# Altium footprint library switch.PCBLIB: 92 footprints (part 6 of 6)
Each footprint in its own frame and in the unit in brackets; x right, y up, seen from the top. Pads: shape width x height; smd on the part's side, far side on the other; paste and mask are expansions set on the pad; w line width, h text height; cw(c..) or ccw(c..) is an arc to the next point about the centre after c.
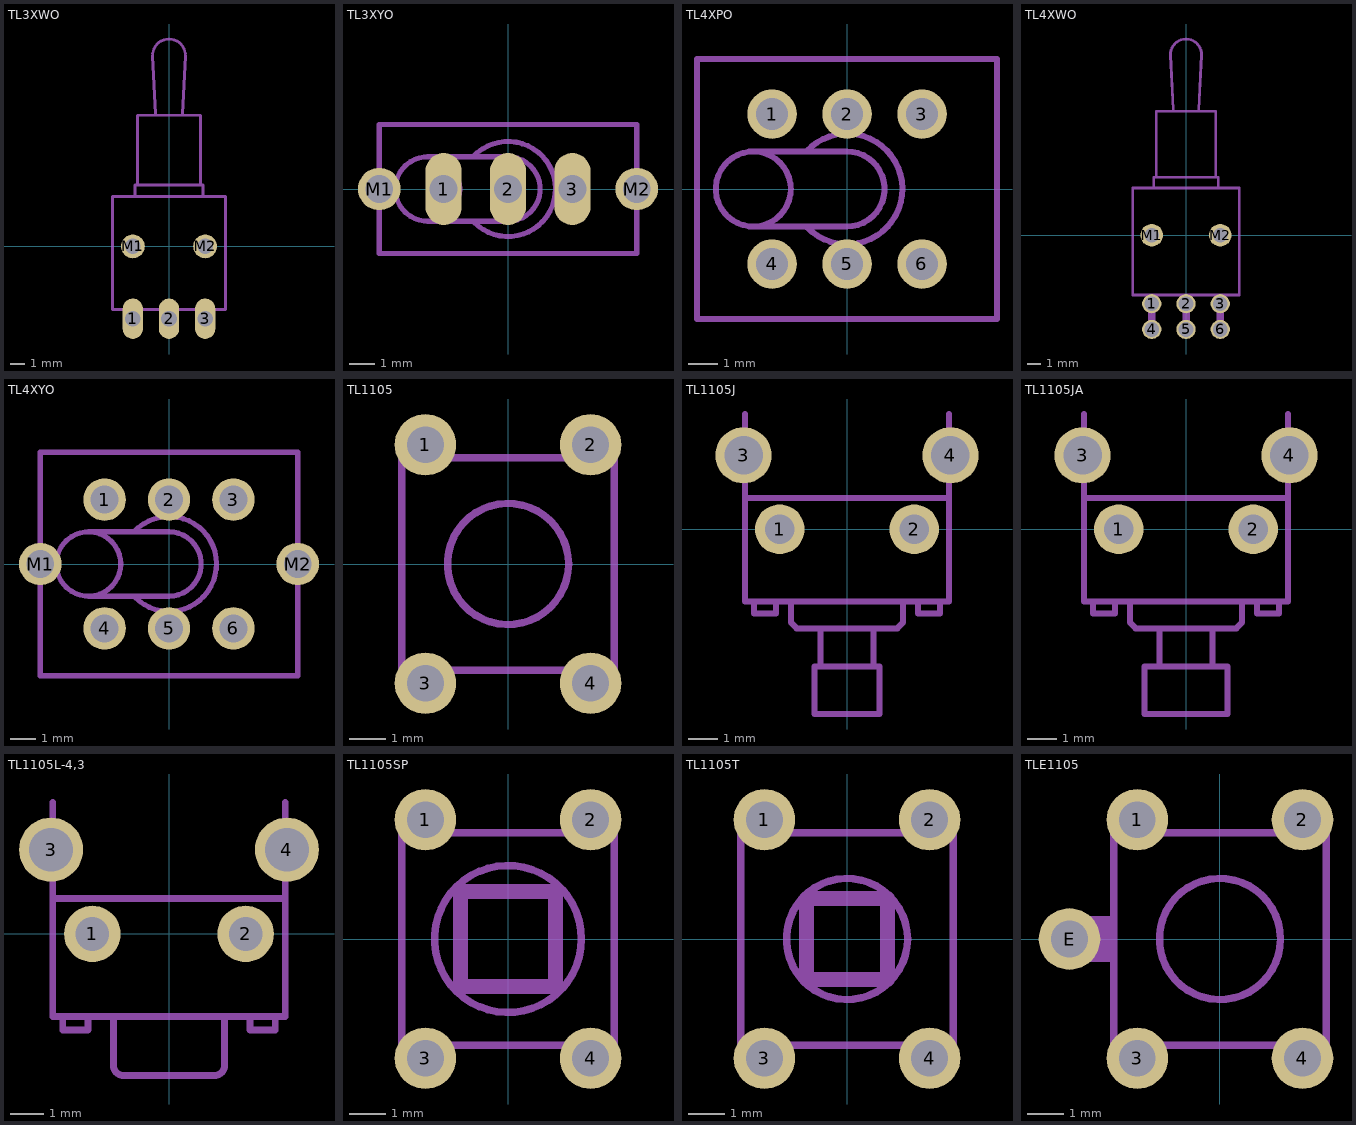
[diagram p5: the footprints below, top view; thin cyan lines are the x and y axes]

## TL3XWO [mil]
pads (5):
  oval 56x112 hole 43.31: 1(-100,-200) 2(0,-200) 3(100,-200)
  round 66 hole 43.31: M1(-100,0) M2(100,0)
Mechanical 2:
  lines w8: -134.29,-174.21 -155.71,-174.21 -155.71,137.8 155.71,137.8 155.71,-174.21 134.29,-174.21 ; -94.49,142.52 -94.49,169.09 94.49,169.09 94.49,141.54 ; -86.61,172.05 -86.61,362.01 ; -85.83,362.2 85.83,362.2 ; -65.71,-174.21 -34.29,-174.21 ; -37.4,365.94 -45.28,525.39 cw(c0,527.63) 45.28,525.39 37.4,365.94 ; 34.29,-174.21 65.71,-174.21 ; 86.61,171.06 86.61,362.01
Mechanical 18:
  rectangle: -110.24,-214.76 -88.58,-173.43
  rectangle: -10.24,-214.76 11.42,-173.43
  rectangle: 89.76,-214.76 111.42,-173.43
  lines w8: -155.71,-174.21 155.71,-174.21

## TL3XYO [mil]
pads (5):
  oval 56x112 hole 43.31: 1(-100,0) 2(0,0) 3(100,0)
  round 66 hole 43.31: M1(-200,0) M2(200,0)
Mechanical 2:
  lines w8: -200,-50 -200,-100 200,-100 200,-50 ; -200,50 -200,100 200,100 200,50
Mechanical 18:
  circle w8: c-125,0 r50
  lines w8: -200,-100 -200,100 ; -125,-50 0,-50 ccw(c0,0) 0,50 -125,50 ; -54.13,50.2 cw(c0,0.03) -53.15,-51.18 ; 200,-100 200,100

## TL4XPO [mil]
pads (6):
  round 66 hole 43.31: 1(-100,100) 2(0,100) 3(100,100) 4(-100,-100) 5(0,-100) 6(100,-100)
Mechanical 2:
  lines w8: -200,-173.62 200,-173.62 200,173.62 -200,173.62 -200,-173.62
Mechanical 18:
  circle w8: c-125,0 r50
  lines w8: -125,-50 0,-50 ccw(c0,0) 0,50 -125,50 ; -54.13,50.2 cw(c0,0.03) -53.15,-51.18

## TL4XWO [mil]
pads (8):
  round 56 hole 43.31: 1(-100,-200) 2(0,-200) 3(100,-200) 4(-100,-275) 5(0,-275) 6(100,-275)
  round 66 hole 43.31: M1(-100,0) M2(100,0)
Mechanical 2:
  lines w8: -134.29,-174.21 -155.71,-174.21 -155.71,137.8 155.71,137.8 155.71,-174.21 134.29,-174.21 ; -94.49,142.52 -94.49,169.09 94.49,169.09 94.49,141.54 ; -86.61,172.05 -86.61,362.01 ; -85.83,362.2 85.83,362.2 ; -65.71,-174.21 -34.29,-174.21 ; -37.4,365.94 -45.28,525.39 cw(c0,527.63) 45.28,525.39 37.4,365.94 ; 34.29,-174.21 65.71,-174.21 ; 86.61,171.06 86.61,362.01
Mechanical 18:
  rectangle: -10.24,-287.4 11.42,-173.43
  rectangle: 89.76,-287.4 111.42,-173.43
  rectangle: -110.24,-287.4 -88.58,-173.43
  lines w8: -155.71,-174.21 155.71,-174.21

## TL4XYO [mil]
pads (8):
  round 66 hole 43.31: 1(-100,100) 2(0,100) 3(100,100) 4(-100,-100) 5(0,-100) 6(100,-100) M1(-200,0) M2(200,0)
Mechanical 2:
  lines w8: -200,-51.38 -200,-173.62 200,-173.62 200,-51.38 ; -200,51.38 -200,173.62 200,173.62 200,51.38
Mechanical 18:
  circle w8: c-125,0 r50
  lines w8: -200,-173.62 -200,173.62 ; -125,-50 0,-50 ccw(c0,0) 0,50 -125,50 ; -54.13,50.2 cw(c0,0.03) -53.15,-51.18 ; 200,-173.62 200,173.62

## TL1105 [mil]
pads (4):
  round 66 hole 39.37: 1(-88.58,127.95) 2(88.58,127.95) 3(-88.58,-127.95) 4(88.58,-127.95)
Mechanical 2:
  circle w8: c0,0 r64.96
  lines w8: -114.17,-89.17 -114.17,89.17 ; -39.17,-114.17 39.17,-114.17 ; -39.17,114.17 39.17,114.17 ; 114.17,-89.17 114.17,89.17
Mechanical 18:
  rectangle: -100.39,115.16 -76.77,151.57
  rectangle: 76.77,115.16 100.39,151.57
  region: 100.39,-115.16 76.77,-115.16 76.77,-151.57 100.39,-151.57
  region: -76.77,-115.16 -100.39,-115.16 -100.39,-151.57 -76.77,-151.57
  lines w8: -114.17,-114.17 -114.17,114.17 114.17,114.17 114.17,-114.17 -114.17,-114.17

## TL1105J [mil]
pads (4):
  round 66 hole 39.37: 1(-89.57,0) 2(89.57,0)
  round 74.8 hole 51.18: 3(-137.8,98.43) 4(137.8,98.43)
Mechanical 2:
  lines w8: -135.83,55.12 -135.83,41.34 ; -135.83,139.76 -135.83,153.54 ; -124.02,-100.39 -124.02,-112.2 -94.49,-112.2 -94.49,-100.39 ; -74.8,-100.39 -74.8,-124.02 -66.93,-131.89 -35.43,-131.89 ; 74.8,-100.39 74.8,-124.02 66.93,-131.89 35.43,-131.89 ; 94.49,-100.39 94.49,-112.2 124.02,-112.2 124.02,-100.39 ; 135.83,55.12 135.83,41.34 ; 135.83,139.76 135.83,153.54 ; -135.83,41.34 -135.83,-96.46 135.83,-96.46 135.83,41.34 ; -135.83,41.34 135.83,41.34 ; -35.43,-183.07 -43.31,-183.07 -43.31,-246.06 43.31,-246.06 43.31,-183.07 35.43,-183.07 ; -35.43,-183.07 35.43,-183.07 ; -35.43,-183.07 -35.43,-131.89 ; -35.43,-131.89 35.43,-131.89 ; 35.43,-183.07 35.43,-131.89
Mechanical 18:
  rectangle: -165.35,78.74 -135.83,118.11
  region: 165.35,118.11 135.83,118.11 135.83,78.74 165.35,78.74
  lines w8: -135.83,41.34 -135.83,153.54 ; 135.83,41.34 135.83,153.54

## TL1105JA [mil]
pads (4):
  round 66 hole 39.37: 1(-89.57,0) 2(89.57,0)
  round 74.8 hole 51.18: 3(-137.8,98.43) 4(137.8,98.43)
Mechanical 2:
  lines w8: -135.83,55.12 -135.83,41.34 ; -135.83,139.76 -135.83,153.54 ; -124.02,-100.39 -124.02,-112.2 -94.49,-112.2 -94.49,-100.39 ; -74.8,-100.39 -74.8,-124.02 -66.93,-131.89 -35.43,-131.89 ; 74.8,-100.39 74.8,-124.02 66.93,-131.89 35.43,-131.89 ; 94.49,-100.39 94.49,-112.2 124.02,-112.2 124.02,-100.39 ; 135.83,55.12 135.83,41.34 ; 135.83,139.76 135.83,153.54 ; -135.83,41.34 -135.83,-96.46 135.83,-96.46 135.83,41.34 ; -135.83,41.34 135.83,41.34 ; -35.43,-183.07 -55.12,-183.07 -55.12,-246.06 55.12,-246.06 55.12,-183.07 35.43,-183.07 ; -35.43,-183.07 35.43,-183.07 ; -35.43,-183.07 -35.43,-131.89 ; -35.43,-131.89 35.43,-131.89 ; 35.43,-183.07 35.43,-131.89
Mechanical 18:
  rectangle: -165.35,78.74 -135.83,118.11
  region: 165.35,118.11 135.83,118.11 135.83,78.74 165.35,78.74
  lines w8: -135.83,41.34 -135.83,153.54 ; 135.83,41.34 135.83,153.54

## TL1105L-4,3 [mil]
pads (4):
  round 66 hole 39.37: 1(-89.57,0) 2(89.57,0)
  round 74.8 hole 51.18: 3(-137.8,98.43) 4(137.8,98.43)
Mechanical 2:
  lines w8: -135.83,55.12 -135.83,41.34 ; -135.83,139.76 -135.83,153.54 ; -124.02,-100.39 -124.02,-112.2 -94.49,-112.2 -94.49,-100.39 ; -64.96,-100.39 -64.96,-153.54 ccw(c-53.15,-153.54) -53.15,-165.35 53.15,-165.35 ccw(c53.15,-153.54) 64.96,-153.54 64.96,-100.39 ; 94.49,-100.39 94.49,-112.2 124.02,-112.2 124.02,-100.39 ; 135.83,55.12 135.83,41.34 ; 135.83,139.76 135.83,153.54 ; -135.83,41.34 -135.83,-96.46 135.83,-96.46 135.83,41.34 ; -135.83,41.34 135.83,41.34
Mechanical 18:
  rectangle: -165.35,78.74 -135.83,118.11
  region: 165.35,118.11 135.83,118.11 135.83,78.74 165.35,78.74
  lines w8: -135.83,41.34 -135.83,153.54 ; 135.83,41.34 135.83,153.54

## TL1105SP [mil]
pads (4):
  round 66 hole 39.37: 1(-88.58,127.95) 2(88.58,127.95) 3(-88.58,-127.95) 4(88.58,-127.95)
Mechanical 2:
  circle w8: c0,0 r78.83
  lines w8: -114.17,-89.17 -114.17,89.17 ; -39.17,-114.17 39.17,-114.17 ; -39.17,114.17 39.17,114.17 ; 114.17,-89.17 114.17,89.17
  lines w16: -51.18,-51.18 -51.18,51.18 51.18,51.18 51.18,-51.18 -51.18,-51.18
Mechanical 18:
  rectangle: -100.39,115.16 -76.77,151.57
  rectangle: 76.77,115.16 100.39,151.57
  region: 100.39,-115.16 76.77,-115.16 76.77,-151.57 100.39,-151.57
  region: -76.77,-115.16 -100.39,-115.16 -100.39,-151.57 -76.77,-151.57
  lines w8: -114.17,-114.17 -114.17,114.17 114.17,114.17 114.17,-114.17 -114.17,-114.17

## TL1105T [mil]
pads (4):
  round 66 hole 39.37: 1(-88.58,127.95) 2(88.58,127.95) 3(-88.58,-127.95) 4(88.58,-127.95)
Mechanical 2:
  circle w8: c0,0 r64.96
  lines w8: -114.17,-89.17 -114.17,89.17 ; -39.17,-114.17 39.17,-114.17 ; -39.17,114.17 39.17,114.17 ; 114.17,-89.17 114.17,89.17
  lines w16: -43.31,-43.31 -43.31,43.31 43.31,43.31 43.31,-43.31 -43.31,-43.31
Mechanical 18:
  rectangle: -100.39,115.16 -76.77,151.57
  rectangle: 76.77,115.16 100.39,151.57
  region: 100.39,-115.16 76.77,-115.16 76.77,-151.57 100.39,-151.57
  region: -76.77,-115.16 -100.39,-115.16 -100.39,-151.57 -76.77,-151.57
  lines w8: -114.17,-114.17 -114.17,114.17 114.17,114.17 114.17,-114.17 -114.17,-114.17

## TLE1105 [mil]
pads (5):
  round 66 hole 39.37: 1(-88.58,127.95) 2(88.58,127.95) 3(-88.58,-127.95) 4(88.58,-127.95) E(-161.42,0)
Mechanical 2:
  circle w8: c0,0 r64.96
  lines w8: -114.17,-89.17 -114.17,89.17 ; -39.17,-114.17 39.17,-114.17 ; -39.17,114.17 39.17,114.17 ; 114.17,-89.17 114.17,89.17
Mechanical 18:
  rectangle: -100.39,115.16 -76.77,151.57
  rectangle: 76.77,115.16 100.39,151.57
  region: 100.39,-115.16 76.77,-115.16 76.77,-151.57 100.39,-151.57
  region: -76.77,-115.16 -100.39,-115.16 -100.39,-151.57 -76.77,-151.57
  rectangle: -181.1,-24.61 -116.14,24.61
  lines w8: -114.17,-114.17 -114.17,114.17 114.17,114.17 114.17,-114.17 -114.17,-114.17